# Altium schematic symbol library Panasonic_ERJ_2512.SchLib: 565 symbols (part 9 of 11)
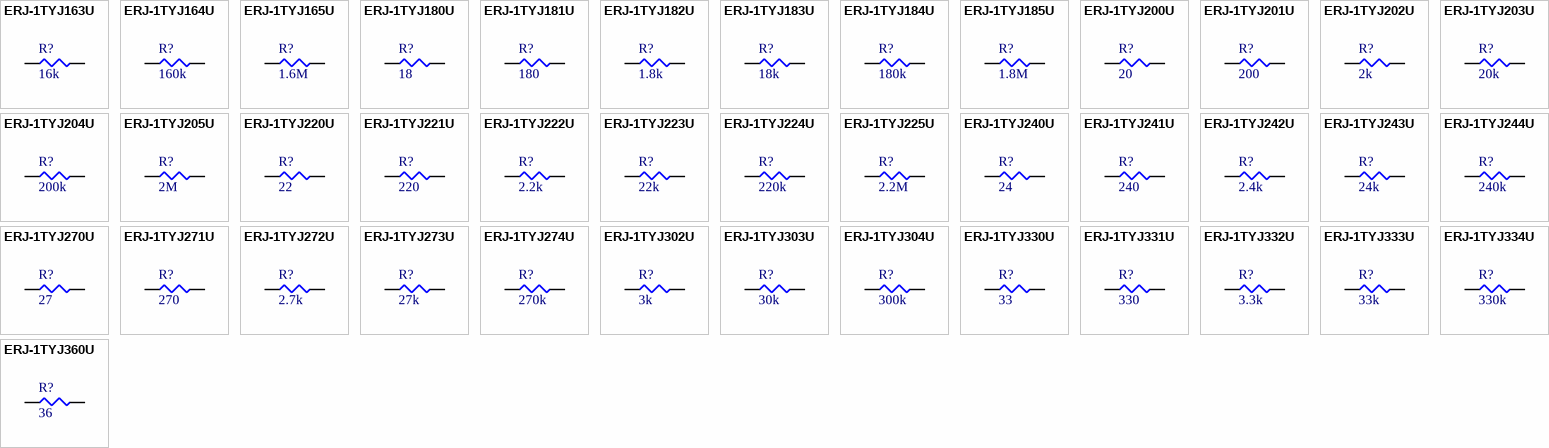
[diagram p22: symbols ERJ-1TYJ163U to ERJ-1TYJ360U]

## ERJ-1TYJ205U
designator R?, comment 2M
RES SMD 2M OHM 5% 1W 2512; Part Number: ERJ-1TYJ205U; Manufacturer: Panasonic Electronic Components; Factory Stock: 0; Unit Price (USD): 0.10912; @ qty: 1500; Minimum Quantity: 1; Temperature Coefficient: -400/ +150ppm/°C; Datasheets: //media.digikey.com/pdf/Data%20Sheets/Panasonic%20Resistors%20Thermistors%20PDFs/ERJ-xG,14,12(Z),1T_Rev_Apr_2015.pdf; Image: //media.digikey.com/Renders/Panasonic%20Renders/ERJ-2512%20Pkg.jpg; Digi-Key Part Number: PT2.0MXCT-ND; Quantity Available: 17604; Packaging: Cut Tape (CT); Series: ERJ; Part Status: Active; Value: 2M; Tolerance: ±5%; Power (Watts): 1W; Composition: Thick Film; Features: Automotive AEC-Q200; Operating Temperature: -55°C ~ 155°C; Package / Case: 2512 (6432 Metric); Supplier Device Package: 2512; Size / Dimension: 0.252" L x 0.126" W (6.40mm x 3.20mm); Height - Seated (Max): 0.028" (0.70mm); Number of Terminations: 2; Failure Rate: -
footprint SMD-2512-RES
pins: 1, 2

## ERJ-1TYJ220U
designator R?, comment 22
RES SMD 22 OHM 5% 1W 2512; Part Number: ERJ-1TYJ220U; Manufacturer: Panasonic Electronic Components; Factory Stock: 0; Unit Price (USD): 0.10102; @ qty: 1500; Minimum Quantity: 1; Temperature Coefficient: ±200ppm/°C; Datasheets: //media.digikey.com/pdf/Data%20Sheets/Panasonic%20Resistors%20Thermistors%20PDFs/ERJ-xG,14,12(Z),1T_Rev_Apr_2015.pdf; Image: //media.digikey.com/Renders/Panasonic%20Renders/ERJ-2512%20Pkg.jpg; Digi-Key Part Number: PT22XCT-ND; Quantity Available: 25733; Packaging: Cut Tape (CT); Series: ERJ; Part Status: Active; Value: 22; Tolerance: ±5%; Power (Watts): 1W; Composition: Thick Film; Features: Automotive AEC-Q200; Operating Temperature: -55°C ~ 155°C; Package / Case: 2512 (6432 Metric); Supplier Device Package: 2512; Size / Dimension: 0.252" L x 0.126" W (6.40mm x 3.20mm); Height - Seated (Max): 0.028" (0.70mm); Number of Terminations: 2; Failure Rate: -
footprint SMD-2512-RES
pins: 1, 2

## ERJ-1TYJ221U
designator R?, comment 220
RES SMD 220 OHM 5% 1W 2512; Part Number: ERJ-1TYJ221U; Manufacturer: Panasonic Electronic Components; Factory Stock: 0; Unit Price (USD): 0.07603; @ qty: 1500; Minimum Quantity: 1; Temperature Coefficient: ±200ppm/°C; Datasheets: //media.digikey.com/pdf/Data%20Sheets/Panasonic%20Resistors%20Thermistors%20PDFs/ERJ-xG,14,12(Z),1T_Rev_Apr_2015.pdf; Image: //media.digikey.com/Renders/Panasonic%20Renders/ERJ-2512%20Pkg.jpg; Digi-Key Part Number: PT220XCT-ND; Quantity Available: 62116; Packaging: Cut Tape (CT); Series: ERJ; Part Status: Active; Value: 220; Tolerance: ±5%; Power (Watts): 1W; Composition: Thick Film; Features: Automotive AEC-Q200; Operating Temperature: -55°C ~ 155°C; Package / Case: 2512 (6432 Metric); Supplier Device Package: 2512; Size / Dimension: 0.252" L x 0.126" W (6.40mm x 3.20mm); Height - Seated (Max): 0.028" (0.70mm); Number of Terminations: 2; Failure Rate: -
footprint SMD-2512-RES
pins: 1, 2

## ERJ-1TYJ222U
designator R?, comment 2.2k
RES SMD 2.2K OHM 5% 1W 2512; Part Number: ERJ-1TYJ222U; Manufacturer: Panasonic Electronic Components; Factory Stock: 0; Unit Price (USD): 0.07603; @ qty: 1500; Minimum Quantity: 1; Temperature Coefficient: ±200ppm/°C; Datasheets: //media.digikey.com/pdf/Data%20Sheets/Panasonic%20Resistors%20Thermistors%20PDFs/ERJ-xG,14,12(Z),1T_Rev_Apr_2015.pdf; Image: //media.digikey.com/Renders/Panasonic%20Renders/ERJ-2512%20Pkg.jpg; Digi-Key Part Number: PT2.2KXCT-ND; Quantity Available: 57537; Packaging: Cut Tape (CT); Series: ERJ; Part Status: Active; Value: 2.2k; Tolerance: ±5%; Power (Watts): 1W; Composition: Thick Film; Features: Automotive AEC-Q200; Operating Temperature: -55°C ~ 155°C; Package / Case: 2512 (6432 Metric); Supplier Device Package: 2512; Size / Dimension: 0.252" L x 0.126" W (6.40mm x 3.20mm); Height - Seated (Max): 0.028" (0.70mm); Number of Terminations: 2; Failure Rate: -
footprint SMD-2512-RES
pins: 1, 2

## ERJ-1TYJ223U
designator R?, comment 22k
RES SMD 22K OHM 5% 1W 2512; Part Number: ERJ-1TYJ223U; Manufacturer: Panasonic Electronic Components; Factory Stock: 0; Unit Price (USD): 0.07603; @ qty: 1500; Minimum Quantity: 1; Temperature Coefficient: ±200ppm/°C; Datasheets: //media.digikey.com/pdf/Data%20Sheets/Panasonic%20Resistors%20Thermistors%20PDFs/ERJ-xG,14,12(Z),1T_Rev_Apr_2015.pdf; Image: //media.digikey.com/Renders/Panasonic%20Renders/ERJ-2512%20Pkg.jpg; Digi-Key Part Number: PT22KXCT-ND; Quantity Available: 10355; Packaging: Cut Tape (CT); Series: ERJ; Part Status: Active; Value: 22k; Tolerance: ±5%; Power (Watts): 1W; Composition: Thick Film; Features: Automotive AEC-Q200; Operating Temperature: -55°C ~ 155°C; Package / Case: 2512 (6432 Metric); Supplier Device Package: 2512; Size / Dimension: 0.252" L x 0.126" W (6.40mm x 3.20mm); Height - Seated (Max): 0.028" (0.70mm); Number of Terminations: 2; Failure Rate: -
footprint SMD-2512-RES
pins: 1, 2

## ERJ-1TYJ224U
designator R?, comment 220k
RES SMD 220K OHM 5% 1W 2512; Part Number: ERJ-1TYJ224U; Manufacturer: Panasonic Electronic Components; Factory Stock: 0; Unit Price (USD): 0.07603; @ qty: 1500; Minimum Quantity: 1; Temperature Coefficient: ±200ppm/°C; Datasheets: //media.digikey.com/pdf/Data%20Sheets/Panasonic%20Resistors%20Thermistors%20PDFs/ERJ-xG,14,12(Z),1T_Rev_Apr_2015.pdf; Image: //media.digikey.com/Renders/Panasonic%20Renders/ERJ-2512%20Pkg.jpg; Digi-Key Part Number: PT220KXCT-ND; Quantity Available: 4739; Packaging: Cut Tape (CT); Series: ERJ; Part Status: Active; Value: 220k; Tolerance: ±5%; Power (Watts): 1W; Composition: Thick Film; Features: Automotive AEC-Q200; Operating Temperature: -55°C ~ 155°C; Package / Case: 2512 (6432 Metric); Supplier Device Package: 2512; Size / Dimension: 0.252" L x 0.126" W (6.40mm x 3.20mm); Height - Seated (Max): 0.028" (0.70mm); Number of Terminations: 2; Failure Rate: -
footprint SMD-2512-RES
pins: 1, 2

## ERJ-1TYJ225U
designator R?, comment 2.2M
RES SMD 2.2M OHM 5% 1W 2512; Part Number: ERJ-1TYJ225U; Manufacturer: Panasonic Electronic Components; Factory Stock: 0; Unit Price (USD): 0.07603; @ qty: 1500; Minimum Quantity: 1; Temperature Coefficient: -400/ +150ppm/°C; Datasheets: //media.digikey.com/pdf/Data%20Sheets/Panasonic%20Resistors%20Thermistors%20PDFs/ERJ-xG,14,12(Z),1T_Rev_Apr_2015.pdf; Image: //media.digikey.com/Renders/Panasonic%20Renders/ERJ-2512%20Pkg.jpg; Digi-Key Part Number: PT2.2MXCT-ND; Quantity Available: 9358; Packaging: Cut Tape (CT); Series: ERJ; Part Status: Active; Value: 2.2M; Tolerance: ±5%; Power (Watts): 1W; Composition: Thick Film; Features: Automotive AEC-Q200; Operating Temperature: -55°C ~ 155°C; Package / Case: 2512 (6432 Metric); Supplier Device Package: 2512; Size / Dimension: 0.252" L x 0.126" W (6.40mm x 3.20mm); Height - Seated (Max): 0.028" (0.70mm); Number of Terminations: 2; Failure Rate: -
footprint SMD-2512-RES
pins: 1, 2

## ERJ-1TYJ240U
designator R?, comment 24
RES SMD 24 OHM 5% 1W 2512; Part Number: ERJ-1TYJ240U; Manufacturer: Panasonic Electronic Components; Factory Stock: 0; Unit Price (USD): 0.10102; @ qty: 1500; Minimum Quantity: 1; Temperature Coefficient: ±200ppm/°C; Datasheets: //media.digikey.com/pdf/Data%20Sheets/Panasonic%20Resistors%20Thermistors%20PDFs/ERJ-xG,14,12(Z),1T_Rev_Apr_2015.pdf; Image: //media.digikey.com/Renders/Panasonic%20Renders/ERJ-2512%20Pkg.jpg; Digi-Key Part Number: PT24XCT-ND; Quantity Available: 8352; Packaging: Cut Tape (CT); Series: ERJ; Part Status: Active; Value: 24; Tolerance: ±5%; Power (Watts): 1W; Composition: Thick Film; Features: Automotive AEC-Q200; Operating Temperature: -55°C ~ 155°C; Package / Case: 2512 (6432 Metric); Supplier Device Package: 2512; Size / Dimension: 0.252" L x 0.126" W (6.40mm x 3.20mm); Height - Seated (Max): 0.028" (0.70mm); Number of Terminations: 2; Failure Rate: -
footprint SMD-2512-RES
pins: 1, 2

## ERJ-1TYJ241U
designator R?, comment 240
RES SMD 240 OHM 5% 1W 2512; Part Number: ERJ-1TYJ241U; Manufacturer: Panasonic Electronic Components; Factory Stock: 0; Unit Price (USD): 0.07603; @ qty: 1500; Minimum Quantity: 1; Temperature Coefficient: ±200ppm/°C; Datasheets: //media.digikey.com/pdf/Data%20Sheets/Panasonic%20Resistors%20Thermistors%20PDFs/ERJ-xG,14,12(Z),1T_Rev_Apr_2015.pdf; Image: //media.digikey.com/Renders/Panasonic%20Renders/ERJ-2512%20Pkg.jpg; Digi-Key Part Number: PT240XCT-ND; Quantity Available: 12164; Packaging: Cut Tape (CT); Series: ERJ; Part Status: Active; Value: 240; Tolerance: ±5%; Power (Watts): 1W; Composition: Thick Film; Features: Automotive AEC-Q200; Operating Temperature: -55°C ~ 155°C; Package / Case: 2512 (6432 Metric); Supplier Device Package: 2512; Size / Dimension: 0.252" L x 0.126" W (6.40mm x 3.20mm); Height - Seated (Max): 0.028" (0.70mm); Number of Terminations: 2; Failure Rate: -
footprint SMD-2512-RES
pins: 1, 2

## ERJ-1TYJ242U
designator R?, comment 2.4k
RES SMD 2.4K OHM 5% 1W 2512; Part Number: ERJ-1TYJ242U; Manufacturer: Panasonic Electronic Components; Factory Stock: 0; Unit Price (USD): 0.07603; @ qty: 1500; Minimum Quantity: 1; Temperature Coefficient: ±200ppm/°C; Datasheets: //media.digikey.com/pdf/Data%20Sheets/Panasonic%20Resistors%20Thermistors%20PDFs/ERJ-xG,14,12(Z),1T_Rev_Apr_2015.pdf; Image: //media.digikey.com/Renders/Panasonic%20Renders/ERJ-2512%20Pkg.jpg; Digi-Key Part Number: PT2.4KXCT-ND; Quantity Available: 11985; Packaging: Cut Tape (CT); Series: ERJ; Part Status: Active; Value: 2.4k; Tolerance: ±5%; Power (Watts): 1W; Composition: Thick Film; Features: Automotive AEC-Q200; Operating Temperature: -55°C ~ 155°C; Package / Case: 2512 (6432 Metric); Supplier Device Package: 2512; Size / Dimension: 0.252" L x 0.126" W (6.40mm x 3.20mm); Height - Seated (Max): 0.028" (0.70mm); Number of Terminations: 2; Failure Rate: -
footprint SMD-2512-RES
pins: 1, 2

## ERJ-1TYJ243U
designator R?, comment 24k
RES SMD 24K OHM 5% 1W 2512; Part Number: ERJ-1TYJ243U; Manufacturer: Panasonic Electronic Components; Factory Stock: 0; Unit Price (USD): 0.07603; @ qty: 1500; Minimum Quantity: 1; Temperature Coefficient: ±200ppm/°C; Datasheets: //media.digikey.com/pdf/Data%20Sheets/Panasonic%20Resistors%20Thermistors%20PDFs/ERJ-xG,14,12(Z),1T_Rev_Apr_2015.pdf; Image: //media.digikey.com/Renders/Panasonic%20Renders/ERJ-2512%20Pkg.jpg; Digi-Key Part Number: PT24KXCT-ND; Quantity Available: 10171; Packaging: Cut Tape (CT); Series: ERJ; Part Status: Active; Value: 24k; Tolerance: ±5%; Power (Watts): 1W; Composition: Thick Film; Features: Automotive AEC-Q200; Operating Temperature: -55°C ~ 155°C; Package / Case: 2512 (6432 Metric); Supplier Device Package: 2512; Size / Dimension: 0.252" L x 0.126" W (6.40mm x 3.20mm); Height - Seated (Max): 0.028" (0.70mm); Number of Terminations: 2; Failure Rate: -
footprint SMD-2512-RES
pins: 1, 2

## ERJ-1TYJ244U
designator R?, comment 240k
RES SMD 240K OHM 5% 1W 2512; Part Number: ERJ-1TYJ244U; Manufacturer: Panasonic Electronic Components; Factory Stock: 0; Unit Price (USD): 0.07603; @ qty: 1500; Minimum Quantity: 1; Temperature Coefficient: ±200ppm/°C; Datasheets: //media.digikey.com/pdf/Data%20Sheets/Panasonic%20Resistors%20Thermistors%20PDFs/ERJ-xG,14,12(Z),1T_Rev_Apr_2015.pdf; Image: //media.digikey.com/Renders/Panasonic%20Renders/ERJ-2512%20Pkg.jpg; Digi-Key Part Number: PT240KXCT-ND; Quantity Available: 12536; Packaging: Cut Tape (CT); Series: ERJ; Part Status: Active; Value: 240k; Tolerance: ±5%; Power (Watts): 1W; Composition: Thick Film; Features: Automotive AEC-Q200; Operating Temperature: -55°C ~ 155°C; Package / Case: 2512 (6432 Metric); Supplier Device Package: 2512; Size / Dimension: 0.252" L x 0.126" W (6.40mm x 3.20mm); Height - Seated (Max): 0.028" (0.70mm); Number of Terminations: 2; Failure Rate: -
footprint SMD-2512-RES
pins: 1, 2

## ERJ-1TYJ270U
designator R?, comment 27
RES SMD 27 OHM 5% 1W 2512; Part Number: ERJ-1TYJ270U; Manufacturer: Panasonic Electronic Components; Factory Stock: 0; Unit Price (USD): 0.07603; @ qty: 1500; Minimum Quantity: 1; Temperature Coefficient: ±200ppm/°C; Datasheets: //media.digikey.com/pdf/Data%20Sheets/Panasonic%20Resistors%20Thermistors%20PDFs/ERJ-xG,14,12(Z),1T_Rev_Apr_2015.pdf; Image: //media.digikey.com/Renders/Panasonic%20Renders/ERJ-2512%20Pkg.jpg; Digi-Key Part Number: PT27XCT-ND; Quantity Available: 17969; Packaging: Cut Tape (CT); Series: ERJ; Part Status: Active; Value: 27; Tolerance: ±5%; Power (Watts): 1W; Composition: Thick Film; Features: Automotive AEC-Q200; Operating Temperature: -55°C ~ 155°C; Package / Case: 2512 (6432 Metric); Supplier Device Package: 2512; Size / Dimension: 0.252" L x 0.126" W (6.40mm x 3.20mm); Height - Seated (Max): 0.028" (0.70mm); Number of Terminations: 2; Failure Rate: -
footprint SMD-2512-RES
pins: 1, 2

## ERJ-1TYJ271U
designator R?, comment 270
RES SMD 270 OHM 5% 1W 2512; Part Number: ERJ-1TYJ271U; Manufacturer: Panasonic Electronic Components; Factory Stock: 0; Unit Price (USD): 0.10102; @ qty: 1500; Minimum Quantity: 1; Temperature Coefficient: ±200ppm/°C; Datasheets: //media.digikey.com/pdf/Data%20Sheets/Panasonic%20Resistors%20Thermistors%20PDFs/ERJ-xG,14,12(Z),1T_Rev_Apr_2015.pdf; Image: //media.digikey.com/Renders/Panasonic%20Renders/ERJ-2512%20Pkg.jpg; Digi-Key Part Number: PT270XCT-ND; Quantity Available: 13712; Packaging: Cut Tape (CT); Series: ERJ; Part Status: Active; Value: 270; Tolerance: ±5%; Power (Watts): 1W; Composition: Thick Film; Features: Automotive AEC-Q200; Operating Temperature: -55°C ~ 155°C; Package / Case: 2512 (6432 Metric); Supplier Device Package: 2512; Size / Dimension: 0.252" L x 0.126" W (6.40mm x 3.20mm); Height - Seated (Max): 0.028" (0.70mm); Number of Terminations: 2; Failure Rate: -
footprint SMD-2512-RES
pins: 1, 2

## ERJ-1TYJ272U
designator R?, comment 2.7k
RES SMD 2.7K OHM 5% 1W 2512; Part Number: ERJ-1TYJ272U; Manufacturer: Panasonic Electronic Components; Factory Stock: 0; Unit Price (USD): 0.10102; @ qty: 1500; Minimum Quantity: 1; Temperature Coefficient: ±200ppm/°C; Datasheets: //media.digikey.com/pdf/Data%20Sheets/Panasonic%20Resistors%20Thermistors%20PDFs/ERJ-xG,14,12(Z),1T_Rev_Apr_2015.pdf; Image: //media.digikey.com/Renders/Panasonic%20Renders/ERJ-2512%20Pkg.jpg; Digi-Key Part Number: PT2.7KXCT-ND; Quantity Available: 8872; Packaging: Cut Tape (CT); Series: ERJ; Part Status: Active; Value: 2.7k; Tolerance: ±5%; Power (Watts): 1W; Composition: Thick Film; Features: Automotive AEC-Q200; Operating Temperature: -55°C ~ 155°C; Package / Case: 2512 (6432 Metric); Supplier Device Package: 2512; Size / Dimension: 0.252" L x 0.126" W (6.40mm x 3.20mm); Height - Seated (Max): 0.028" (0.70mm); Number of Terminations: 2; Failure Rate: -
footprint SMD-2512-RES
pins: 1, 2

## ERJ-1TYJ273U
designator R?, comment 27k
RES SMD 27K OHM 5% 1W 2512; Part Number: ERJ-1TYJ273U; Manufacturer: Panasonic Electronic Components; Factory Stock: 0; Unit Price (USD): 0.10102; @ qty: 1500; Minimum Quantity: 1; Temperature Coefficient: ±200ppm/°C; Datasheets: //media.digikey.com/pdf/Data%20Sheets/Panasonic%20Resistors%20Thermistors%20PDFs/ERJ-xG,14,12(Z),1T_Rev_Apr_2015.pdf; Image: //media.digikey.com/Renders/Panasonic%20Renders/ERJ-2512%20Pkg.jpg; Digi-Key Part Number: PT27KXCT-ND; Quantity Available: 33101; Packaging: Cut Tape (CT); Series: ERJ; Part Status: Active; Value: 27k; Tolerance: ±5%; Power (Watts): 1W; Composition: Thick Film; Features: Automotive AEC-Q200; Operating Temperature: -55°C ~ 155°C; Package / Case: 2512 (6432 Metric); Supplier Device Package: 2512; Size / Dimension: 0.252" L x 0.126" W (6.40mm x 3.20mm); Height - Seated (Max): 0.028" (0.70mm); Number of Terminations: 2; Failure Rate: -
footprint SMD-2512-RES
pins: 1, 2

## ERJ-1TYJ274U
designator R?, comment 270k
RES SMD 270K OHM 5% 1W 2512; Part Number: ERJ-1TYJ274U; Manufacturer: Panasonic Electronic Components; Factory Stock: 0; Unit Price (USD): 0.10102; @ qty: 1500; Minimum Quantity: 1; Temperature Coefficient: ±200ppm/°C; Datasheets: //media.digikey.com/pdf/Data%20Sheets/Panasonic%20Resistors%20Thermistors%20PDFs/ERJ-xG,14,12(Z),1T_Rev_Apr_2015.pdf; Image: //media.digikey.com/Renders/Panasonic%20Renders/ERJ-2512%20Pkg.jpg; Digi-Key Part Number: PT270KXCT-ND; Quantity Available: 4742; Packaging: Cut Tape (CT); Series: ERJ; Part Status: Active; Value: 270k; Tolerance: ±5%; Power (Watts): 1W; Composition: Thick Film; Features: Automotive AEC-Q200; Operating Temperature: -55°C ~ 155°C; Package / Case: 2512 (6432 Metric); Supplier Device Package: 2512; Size / Dimension: 0.252" L x 0.126" W (6.40mm x 3.20mm); Height - Seated (Max): 0.028" (0.70mm); Number of Terminations: 2; Failure Rate: -
footprint SMD-2512-RES
pins: 1, 2

## ERJ-1TYJ302U
designator R?, comment 3k
RES SMD 3K OHM 5% 1W 2512; Part Number: ERJ-1TYJ302U; Manufacturer: Panasonic Electronic Components; Factory Stock: 0; Unit Price (USD): 0.07603; @ qty: 1500; Minimum Quantity: 1; Temperature Coefficient: ±200ppm/°C; Datasheets: //media.digikey.com/pdf/Data%20Sheets/Panasonic%20Resistors%20Thermistors%20PDFs/ERJ-xG,14,12(Z),1T_Rev_Apr_2015.pdf; Image: //media.digikey.com/Renders/Panasonic%20Renders/ERJ-2512%20Pkg.jpg; Digi-Key Part Number: PT3.0KXCT-ND; Quantity Available: 7561; Packaging: Cut Tape (CT); Series: ERJ; Part Status: Active; Value: 3k; Tolerance: ±5%; Power (Watts): 1W; Composition: Thick Film; Features: Automotive AEC-Q200; Operating Temperature: -55°C ~ 155°C; Package / Case: 2512 (6432 Metric); Supplier Device Package: 2512; Size / Dimension: 0.252" L x 0.126" W (6.40mm x 3.20mm); Height - Seated (Max): 0.028" (0.70mm); Number of Terminations: 2; Failure Rate: -
footprint SMD-2512-RES
pins: 1, 2

## ERJ-1TYJ303U
designator R?, comment 30k
RES SMD 30K OHM 5% 1W 2512; Part Number: ERJ-1TYJ303U; Manufacturer: Panasonic Electronic Components; Factory Stock: 0; Unit Price (USD): 0.07603; @ qty: 1500; Minimum Quantity: 1; Temperature Coefficient: ±200ppm/°C; Datasheets: //media.digikey.com/pdf/Data%20Sheets/Panasonic%20Resistors%20Thermistors%20PDFs/ERJ-xG,14,12(Z),1T_Rev_Apr_2015.pdf; Image: //media.digikey.com/Renders/Panasonic%20Renders/ERJ-2512%20Pkg.jpg; Digi-Key Part Number: PT30KXCT-ND; Quantity Available: 7362; Packaging: Cut Tape (CT); Series: ERJ; Part Status: Active; Value: 30k; Tolerance: ±5%; Power (Watts): 1W; Composition: Thick Film; Features: Automotive AEC-Q200; Operating Temperature: -55°C ~ 155°C; Package / Case: 2512 (6432 Metric); Supplier Device Package: 2512; Size / Dimension: 0.252" L x 0.126" W (6.40mm x 3.20mm); Height - Seated (Max): 0.028" (0.70mm); Number of Terminations: 2; Failure Rate: -
footprint SMD-2512-RES
pins: 1, 2

## ERJ-1TYJ304U
designator R?, comment 300k
RES SMD 300K OHM 5% 1W 2512; Part Number: ERJ-1TYJ304U; Manufacturer: Panasonic Electronic Components; Factory Stock: 0; Unit Price (USD): 0.07603; @ qty: 1500; Minimum Quantity: 1; Temperature Coefficient: ±200ppm/°C; Datasheets: //media.digikey.com/pdf/Data%20Sheets/Panasonic%20Resistors%20Thermistors%20PDFs/ERJ-xG,14,12(Z),1T_Rev_Apr_2015.pdf; Image: //media.digikey.com/Renders/Panasonic%20Renders/ERJ-2512%20Pkg.jpg; Digi-Key Part Number: PT300KXCT-ND; Quantity Available: 3476; Packaging: Cut Tape (CT); Series: ERJ; Part Status: Active; Value: 300k; Tolerance: ±5%; Power (Watts): 1W; Composition: Thick Film; Features: Automotive AEC-Q200; Operating Temperature: -55°C ~ 155°C; Package / Case: 2512 (6432 Metric); Supplier Device Package: 2512; Size / Dimension: 0.252" L x 0.126" W (6.40mm x 3.20mm); Height - Seated (Max): 0.028" (0.70mm); Number of Terminations: 2; Failure Rate: -
footprint SMD-2512-RES
pins: 1, 2

## ERJ-1TYJ330U
designator R?, comment 33
RES SMD 33 OHM 5% 1W 2512; Part Number: ERJ-1TYJ330U; Manufacturer: Panasonic Electronic Components; Factory Stock: 0; Unit Price (USD): 0.10102; @ qty: 1500; Minimum Quantity: 1; Temperature Coefficient: ±200ppm/°C; Datasheets: //media.digikey.com/pdf/Data%20Sheets/Panasonic%20Resistors%20Thermistors%20PDFs/ERJ-xG,14,12(Z),1T_Rev_Apr_2015.pdf; Image: //media.digikey.com/Renders/Panasonic%20Renders/ERJ-2512%20Pkg.jpg; Digi-Key Part Number: PT33XCT-ND; Quantity Available: 18609; Packaging: Cut Tape (CT); Series: ERJ; Part Status: Active; Value: 33; Tolerance: ±5%; Power (Watts): 1W; Composition: Thick Film; Features: Automotive AEC-Q200; Operating Temperature: -55°C ~ 155°C; Package / Case: 2512 (6432 Metric); Supplier Device Package: 2512; Size / Dimension: 0.252" L x 0.126" W (6.40mm x 3.20mm); Height - Seated (Max): 0.028" (0.70mm); Number of Terminations: 2; Failure Rate: -
footprint SMD-2512-RES
pins: 1, 2

## ERJ-1TYJ331U
designator R?, comment 330
RES SMD 330 OHM 5% 1W 2512; Part Number: ERJ-1TYJ331U; Manufacturer: Panasonic Electronic Components; Factory Stock: 0; Unit Price (USD): 0.07603; @ qty: 1500; Minimum Quantity: 1; Temperature Coefficient: ±200ppm/°C; Datasheets: //media.digikey.com/pdf/Data%20Sheets/Panasonic%20Resistors%20Thermistors%20PDFs/ERJ-xG,14,12(Z),1T_Rev_Apr_2015.pdf; Image: //media.digikey.com/Renders/Panasonic%20Renders/ERJ-2512%20Pkg.jpg; Digi-Key Part Number: PT330XCT-ND; Quantity Available: 53063; Packaging: Cut Tape (CT); Series: ERJ; Part Status: Active; Value: 330; Tolerance: ±5%; Power (Watts): 1W; Composition: Thick Film; Features: Automotive AEC-Q200; Operating Temperature: -55°C ~ 155°C; Package / Case: 2512 (6432 Metric); Supplier Device Package: 2512; Size / Dimension: 0.252" L x 0.126" W (6.40mm x 3.20mm); Height - Seated (Max): 0.028" (0.70mm); Number of Terminations: 2; Failure Rate: -
footprint SMD-2512-RES
pins: 1, 2

## ERJ-1TYJ332U
designator R?, comment 3.3k
RES SMD 3.3K OHM 5% 1W 2512; Part Number: ERJ-1TYJ332U; Manufacturer: Panasonic Electronic Components; Factory Stock: 0; Unit Price (USD): 0.10102; @ qty: 1500; Minimum Quantity: 1; Temperature Coefficient: ±200ppm/°C; Datasheets: //media.digikey.com/pdf/Data%20Sheets/Panasonic%20Resistors%20Thermistors%20PDFs/ERJ-xG,14,12(Z),1T_Rev_Apr_2015.pdf; Image: //media.digikey.com/Renders/Panasonic%20Renders/ERJ-2512%20Pkg.jpg; Digi-Key Part Number: PT3.3KXCT-ND; Quantity Available: 21139; Packaging: Cut Tape (CT); Series: ERJ; Part Status: Active; Value: 3.3k; Tolerance: ±5%; Power (Watts): 1W; Composition: Thick Film; Features: Automotive AEC-Q200; Operating Temperature: -55°C ~ 155°C; Package / Case: 2512 (6432 Metric); Supplier Device Package: 2512; Size / Dimension: 0.252" L x 0.126" W (6.40mm x 3.20mm); Height - Seated (Max): 0.028" (0.70mm); Number of Terminations: 2; Failure Rate: -
footprint SMD-2512-RES
pins: 1, 2

## ERJ-1TYJ333U
designator R?, comment 33k
RES SMD 33K OHM 5% 1W 2512; Part Number: ERJ-1TYJ333U; Manufacturer: Panasonic Electronic Components; Factory Stock: 0; Unit Price (USD): 0.10102; @ qty: 1500; Minimum Quantity: 1; Temperature Coefficient: ±200ppm/°C; Datasheets: //media.digikey.com/pdf/Data%20Sheets/Panasonic%20Resistors%20Thermistors%20PDFs/ERJ-xG,14,12(Z),1T_Rev_Apr_2015.pdf; Image: //media.digikey.com/Renders/Panasonic%20Renders/ERJ-2512%20Pkg.jpg; Digi-Key Part Number: PT33KXCT-ND; Quantity Available: 2220; Packaging: Cut Tape (CT); Series: ERJ; Part Status: Active; Value: 33k; Tolerance: ±5%; Power (Watts): 1W; Composition: Thick Film; Features: Automotive AEC-Q200; Operating Temperature: -55°C ~ 155°C; Package / Case: 2512 (6432 Metric); Supplier Device Package: 2512; Size / Dimension: 0.252" L x 0.126" W (6.40mm x 3.20mm); Height - Seated (Max): 0.028" (0.70mm); Number of Terminations: 2; Failure Rate: -
footprint SMD-2512-RES
pins: 1, 2

## ERJ-1TYJ334U
designator R?, comment 330k
RES SMD 330K OHM 5% 1W 2512; Part Number: ERJ-1TYJ334U; Manufacturer: Panasonic Electronic Components; Factory Stock: 0; Unit Price (USD): 0.07603; @ qty: 1500; Minimum Quantity: 1; Temperature Coefficient: ±200ppm/°C; Datasheets: //media.digikey.com/pdf/Data%20Sheets/Panasonic%20Resistors%20Thermistors%20PDFs/ERJ-xG,14,12(Z),1T_Rev_Apr_2015.pdf; Image: //media.digikey.com/Renders/Panasonic%20Renders/ERJ-2512%20Pkg.jpg; Digi-Key Part Number: PT330KXCT-ND; Quantity Available: 34319; Packaging: Cut Tape (CT); Series: ERJ; Part Status: Active; Value: 330k; Tolerance: ±5%; Power (Watts): 1W; Composition: Thick Film; Features: Automotive AEC-Q200; Operating Temperature: -55°C ~ 155°C; Package / Case: 2512 (6432 Metric); Supplier Device Package: 2512; Size / Dimension: 0.252" L x 0.126" W (6.40mm x 3.20mm); Height - Seated (Max): 0.028" (0.70mm); Number of Terminations: 2; Failure Rate: -
footprint SMD-2512-RES
pins: 1, 2

## ERJ-1TYJ360U
designator R?, comment 36
RES SMD 36 OHM 5% 1W 2512; Part Number: ERJ-1TYJ360U; Manufacturer: Panasonic Electronic Components; Factory Stock: 0; Unit Price (USD): 0.10102; @ qty: 1500; Minimum Quantity: 1; Temperature Coefficient: ±200ppm/°C; Datasheets: //media.digikey.com/pdf/Data%20Sheets/Panasonic%20Resistors%20Thermistors%20PDFs/ERJ-xG,14,12(Z),1T_Rev_Apr_2015.pdf; Image: //media.digikey.com/Renders/Panasonic%20Renders/ERJ-2512%20Pkg.jpg; Digi-Key Part Number: PT36XCT-ND; Quantity Available: 53533; Packaging: Cut Tape (CT); Series: ERJ; Part Status: Active; Value: 36; Tolerance: ±5%; Power (Watts): 1W; Composition: Thick Film; Features: Automotive AEC-Q200; Operating Temperature: -55°C ~ 155°C; Package / Case: 2512 (6432 Metric); Supplier Device Package: 2512; Size / Dimension: 0.252" L x 0.126" W (6.40mm x 3.20mm); Height - Seated (Max): 0.028" (0.70mm); Number of Terminations: 2; Failure Rate: -
footprint SMD-2512-RES
pins: 1, 2

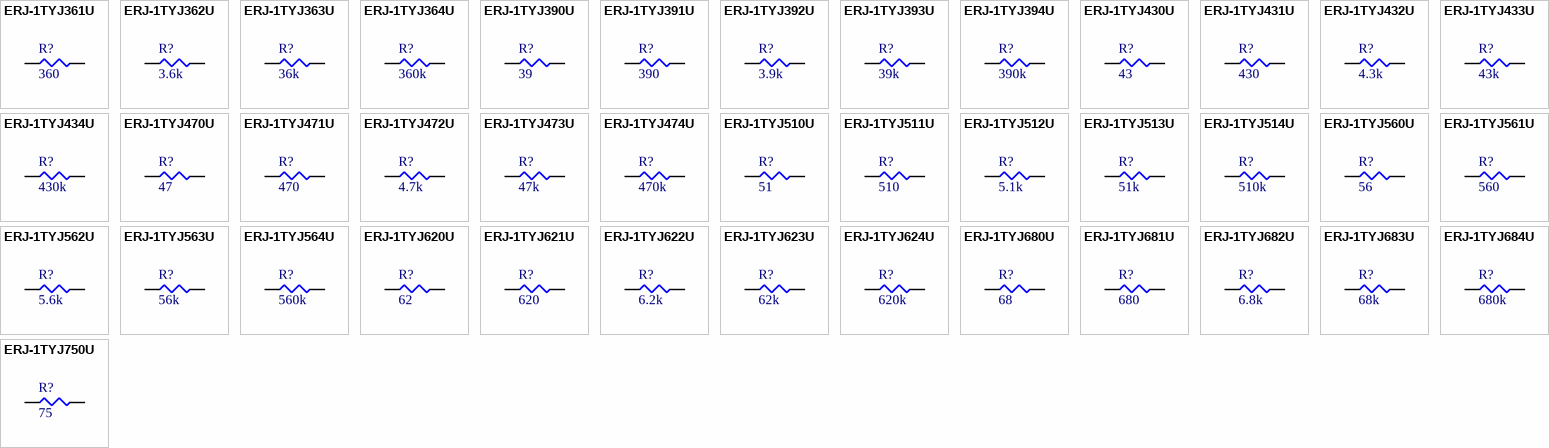
[diagram p11: symbols ERJ-1TYJ361U to ERJ-1TYJ750U]

## ERJ-1TYJ361U
designator R?, comment 360
RES SMD 360 OHM 5% 1W 2512; Part Number: ERJ-1TYJ361U; Manufacturer: Panasonic Electronic Components; Factory Stock: 0; Unit Price (USD): 0.10102; @ qty: 1500; Minimum Quantity: 1; Temperature Coefficient: ±200ppm/°C; Datasheets: //media.digikey.com/pdf/Data%20Sheets/Panasonic%20Resistors%20Thermistors%20PDFs/ERJ-xG,14,12(Z),1T_Rev_Apr_2015.pdf; Image: //media.digikey.com/Renders/Panasonic%20Renders/ERJ-2512%20Pkg.jpg; Digi-Key Part Number: PT360XCT-ND; Quantity Available: 11763; Packaging: Cut Tape (CT); Series: ERJ; Part Status: Active; Value: 360; Tolerance: ±5%; Power (Watts): 1W; Composition: Thick Film; Features: Automotive AEC-Q200; Operating Temperature: -55°C ~ 155°C; Package / Case: 2512 (6432 Metric); Supplier Device Package: 2512; Size / Dimension: 0.252" L x 0.126" W (6.40mm x 3.20mm); Height - Seated (Max): 0.028" (0.70mm); Number of Terminations: 2; Failure Rate: -
footprint SMD-2512-RES
pins: 1, 2

## ERJ-1TYJ362U
designator R?, comment 3.6k
RES SMD 3.6K OHM 5% 1W 2512; Part Number: ERJ-1TYJ362U; Manufacturer: Panasonic Electronic Components; Factory Stock: 0; Unit Price (USD): 0.07603; @ qty: 1500; Minimum Quantity: 1; Temperature Coefficient: ±200ppm/°C; Datasheets: //media.digikey.com/pdf/Data%20Sheets/Panasonic%20Resistors%20Thermistors%20PDFs/ERJ-xG,14,12(Z),1T_Rev_Apr_2015.pdf; Image: //media.digikey.com/Renders/Panasonic%20Renders/ERJ-2512%20Pkg.jpg; Digi-Key Part Number: PT3.6KXCT-ND; Quantity Available: 12944; Packaging: Cut Tape (CT); Series: ERJ; Part Status: Active; Value: 3.6k; Tolerance: ±5%; Power (Watts): 1W; Composition: Thick Film; Features: Automotive AEC-Q200; Operating Temperature: -55°C ~ 155°C; Package / Case: 2512 (6432 Metric); Supplier Device Package: 2512; Size / Dimension: 0.252" L x 0.126" W (6.40mm x 3.20mm); Height - Seated (Max): 0.028" (0.70mm); Number of Terminations: 2; Failure Rate: -
footprint SMD-2512-RES
pins: 1, 2

## ERJ-1TYJ363U
designator R?, comment 36k
RES SMD 36K OHM 5% 1W 2512; Part Number: ERJ-1TYJ363U; Manufacturer: Panasonic Electronic Components; Factory Stock: 0; Unit Price (USD): 0.10102; @ qty: 1500; Minimum Quantity: 1; Temperature Coefficient: ±200ppm/°C; Datasheets: //media.digikey.com/pdf/Data%20Sheets/Panasonic%20Resistors%20Thermistors%20PDFs/ERJ-xG,14,12(Z),1T_Rev_Apr_2015.pdf; Image: //media.digikey.com/Renders/Panasonic%20Renders/ERJ-2512%20Pkg.jpg; Digi-Key Part Number: PT36KXCT-ND; Quantity Available: 8120; Packaging: Cut Tape (CT); Series: ERJ; Part Status: Active; Value: 36k; Tolerance: ±5%; Power (Watts): 1W; Composition: Thick Film; Features: Automotive AEC-Q200; Operating Temperature: -55°C ~ 155°C; Package / Case: 2512 (6432 Metric); Supplier Device Package: 2512; Size / Dimension: 0.252" L x 0.126" W (6.40mm x 3.20mm); Height - Seated (Max): 0.028" (0.70mm); Number of Terminations: 2; Failure Rate: -
footprint SMD-2512-RES
pins: 1, 2

## ERJ-1TYJ364U
designator R?, comment 360k
RES SMD 360K OHM 5% 1W 2512; Part Number: ERJ-1TYJ364U; Manufacturer: Panasonic Electronic Components; Factory Stock: 0; Unit Price (USD): 0.07603; @ qty: 1500; Minimum Quantity: 1; Temperature Coefficient: ±200ppm/°C; Datasheets: //media.digikey.com/pdf/Data%20Sheets/Panasonic%20Resistors%20Thermistors%20PDFs/ERJ-xG,14,12(Z),1T_Rev_Apr_2015.pdf; Image: //media.digikey.com/Renders/Panasonic%20Renders/ERJ-2512%20Pkg.jpg; Digi-Key Part Number: PT360KXCT-ND; Quantity Available: 4886; Packaging: Cut Tape (CT); Series: ERJ; Part Status: Active; Value: 360k; Tolerance: ±5%; Power (Watts): 1W; Composition: Thick Film; Features: Automotive AEC-Q200; Operating Temperature: -55°C ~ 155°C; Package / Case: 2512 (6432 Metric); Supplier Device Package: 2512; Size / Dimension: 0.252" L x 0.126" W (6.40mm x 3.20mm); Height - Seated (Max): 0.028" (0.70mm); Number of Terminations: 2; Failure Rate: -
footprint SMD-2512-RES
pins: 1, 2

## ERJ-1TYJ390U
designator R?, comment 39
RES SMD 39 OHM 5% 1W 2512; Part Number: ERJ-1TYJ390U; Manufacturer: Panasonic Electronic Components; Factory Stock: 0; Unit Price (USD): 0.07603; @ qty: 1500; Minimum Quantity: 1; Temperature Coefficient: ±200ppm/°C; Datasheets: //media.digikey.com/pdf/Data%20Sheets/Panasonic%20Resistors%20Thermistors%20PDFs/ERJ-xG,14,12(Z),1T_Rev_Apr_2015.pdf; Image: //media.digikey.com/Renders/Panasonic%20Renders/ERJ-2512%20Pkg.jpg; Digi-Key Part Number: PT39XCT-ND; Quantity Available: 77542; Packaging: Cut Tape (CT); Series: ERJ; Part Status: Active; Value: 39; Tolerance: ±5%; Power (Watts): 1W; Composition: Thick Film; Features: Automotive AEC-Q200; Operating Temperature: -55°C ~ 155°C; Package / Case: 2512 (6432 Metric); Supplier Device Package: 2512; Size / Dimension: 0.252" L x 0.126" W (6.40mm x 3.20mm); Height - Seated (Max): 0.028" (0.70mm); Number of Terminations: 2; Failure Rate: -
footprint SMD-2512-RES
pins: 1, 2

## ERJ-1TYJ391U
designator R?, comment 390
RES SMD 390 OHM 5% 1W 2512; Part Number: ERJ-1TYJ391U; Manufacturer: Panasonic Electronic Components; Factory Stock: 0; Unit Price (USD): 0.10102; @ qty: 1500; Minimum Quantity: 1; Temperature Coefficient: ±200ppm/°C; Datasheets: //media.digikey.com/pdf/Data%20Sheets/Panasonic%20Resistors%20Thermistors%20PDFs/ERJ-xG,14,12(Z),1T_Rev_Apr_2015.pdf; Image: //media.digikey.com/Renders/Panasonic%20Renders/ERJ-2512%20Pkg.jpg; Digi-Key Part Number: PT390XCT-ND; Quantity Available: 7655; Packaging: Cut Tape (CT); Series: ERJ; Part Status: Active; Value: 390; Tolerance: ±5%; Power (Watts): 1W; Composition: Thick Film; Features: Automotive AEC-Q200; Operating Temperature: -55°C ~ 155°C; Package / Case: 2512 (6432 Metric); Supplier Device Package: 2512; Size / Dimension: 0.252" L x 0.126" W (6.40mm x 3.20mm); Height - Seated (Max): 0.028" (0.70mm); Number of Terminations: 2; Failure Rate: -
footprint SMD-2512-RES
pins: 1, 2

## ERJ-1TYJ392U
designator R?, comment 3.9k
RES SMD 3.9K OHM 5% 1W 2512; Part Number: ERJ-1TYJ392U; Manufacturer: Panasonic Electronic Components; Factory Stock: 0; Unit Price (USD): 0.07603; @ qty: 1500; Minimum Quantity: 1; Temperature Coefficient: ±200ppm/°C; Datasheets: //media.digikey.com/pdf/Data%20Sheets/Panasonic%20Resistors%20Thermistors%20PDFs/ERJ-xG,14,12(Z),1T_Rev_Apr_2015.pdf; Image: //media.digikey.com/Renders/Panasonic%20Renders/ERJ-2512%20Pkg.jpg; Digi-Key Part Number: PT3.9KXCT-ND; Quantity Available: 4285; Packaging: Cut Tape (CT); Series: ERJ; Part Status: Active; Value: 3.9k; Tolerance: ±5%; Power (Watts): 1W; Composition: Thick Film; Features: Automotive AEC-Q200; Operating Temperature: -55°C ~ 155°C; Package / Case: 2512 (6432 Metric); Supplier Device Package: 2512; Size / Dimension: 0.252" L x 0.126" W (6.40mm x 3.20mm); Height - Seated (Max): 0.028" (0.70mm); Number of Terminations: 2; Failure Rate: -
footprint SMD-2512-RES
pins: 1, 2

## ERJ-1TYJ393U
designator R?, comment 39k
RES SMD 39K OHM 5% 1W 2512; Part Number: ERJ-1TYJ393U; Manufacturer: Panasonic Electronic Components; Factory Stock: 0; Unit Price (USD): 0.10102; @ qty: 1500; Minimum Quantity: 1; Temperature Coefficient: ±200ppm/°C; Datasheets: //media.digikey.com/pdf/Data%20Sheets/Panasonic%20Resistors%20Thermistors%20PDFs/ERJ-xG,14,12(Z),1T_Rev_Apr_2015.pdf; Image: //media.digikey.com/Renders/Panasonic%20Renders/ERJ-2512%20Pkg.jpg; Digi-Key Part Number: PT39KXCT-ND; Quantity Available: 22258; Packaging: Cut Tape (CT); Series: ERJ; Part Status: Active; Value: 39k; Tolerance: ±5%; Power (Watts): 1W; Composition: Thick Film; Features: Automotive AEC-Q200; Operating Temperature: -55°C ~ 155°C; Package / Case: 2512 (6432 Metric); Supplier Device Package: 2512; Size / Dimension: 0.252" L x 0.126" W (6.40mm x 3.20mm); Height - Seated (Max): 0.028" (0.70mm); Number of Terminations: 2; Failure Rate: -
footprint SMD-2512-RES
pins: 1, 2

## ERJ-1TYJ394U
designator R?, comment 390k
RES SMD 390K OHM 5% 1W 2512; Part Number: ERJ-1TYJ394U; Manufacturer: Panasonic Electronic Components; Factory Stock: 0; Unit Price (USD): 0.10102; @ qty: 1500; Minimum Quantity: 1; Temperature Coefficient: ±200ppm/°C; Datasheets: //media.digikey.com/pdf/Data%20Sheets/Panasonic%20Resistors%20Thermistors%20PDFs/ERJ-xG,14,12(Z),1T_Rev_Apr_2015.pdf; Image: //media.digikey.com/Renders/Panasonic%20Renders/ERJ-2512%20Pkg.jpg; Digi-Key Part Number: PT390KXCT-ND; Quantity Available: 11450; Packaging: Cut Tape (CT); Series: ERJ; Part Status: Active; Value: 390k; Tolerance: ±5%; Power (Watts): 1W; Composition: Thick Film; Features: Automotive AEC-Q200; Operating Temperature: -55°C ~ 155°C; Package / Case: 2512 (6432 Metric); Supplier Device Package: 2512; Size / Dimension: 0.252" L x 0.126" W (6.40mm x 3.20mm); Height - Seated (Max): 0.028" (0.70mm); Number of Terminations: 2; Failure Rate: -
footprint SMD-2512-RES
pins: 1, 2

## ERJ-1TYJ430U
designator R?, comment 43
RES SMD 43 OHM 5% 1W 2512; Part Number: ERJ-1TYJ430U; Manufacturer: Panasonic Electronic Components; Factory Stock: 0; Unit Price (USD): 0.07603; @ qty: 1500; Minimum Quantity: 1; Temperature Coefficient: ±200ppm/°C; Datasheets: //media.digikey.com/pdf/Data%20Sheets/Panasonic%20Resistors%20Thermistors%20PDFs/ERJ-xG,14,12(Z),1T_Rev_Apr_2015.pdf; Image: //media.digikey.com/Renders/Panasonic%20Renders/ERJ-2512%20Pkg.jpg; Digi-Key Part Number: PT43XCT-ND; Quantity Available: 3826; Packaging: Cut Tape (CT); Series: ERJ; Part Status: Active; Value: 43; Tolerance: ±5%; Power (Watts): 1W; Composition: Thick Film; Features: Automotive AEC-Q200; Operating Temperature: -55°C ~ 155°C; Package / Case: 2512 (6432 Metric); Supplier Device Package: 2512; Size / Dimension: 0.252" L x 0.126" W (6.40mm x 3.20mm); Height - Seated (Max): 0.028" (0.70mm); Number of Terminations: 2; Failure Rate: -
footprint SMD-2512-RES
pins: 1, 2

## ERJ-1TYJ431U
designator R?, comment 430
RES SMD 430 OHM 5% 1W 2512; Part Number: ERJ-1TYJ431U; Manufacturer: Panasonic Electronic Components; Factory Stock: 0; Unit Price (USD): 0.07603; @ qty: 1500; Minimum Quantity: 1; Temperature Coefficient: ±200ppm/°C; Datasheets: //media.digikey.com/pdf/Data%20Sheets/Panasonic%20Resistors%20Thermistors%20PDFs/ERJ-xG,14,12(Z),1T_Rev_Apr_2015.pdf; Image: //media.digikey.com/Renders/Panasonic%20Renders/ERJ-2512%20Pkg.jpg; Digi-Key Part Number: PT430XCT-ND; Quantity Available: 2936; Packaging: Cut Tape (CT); Series: ERJ; Part Status: Active; Value: 430; Tolerance: ±5%; Power (Watts): 1W; Composition: Thick Film; Features: Automotive AEC-Q200; Operating Temperature: -55°C ~ 155°C; Package / Case: 2512 (6432 Metric); Supplier Device Package: 2512; Size / Dimension: 0.252" L x 0.126" W (6.40mm x 3.20mm); Height - Seated (Max): 0.028" (0.70mm); Number of Terminations: 2; Failure Rate: -
footprint SMD-2512-RES
pins: 1, 2

## ERJ-1TYJ432U
designator R?, comment 4.3k
RES SMD 4.3K OHM 5% 1W 2512; Part Number: ERJ-1TYJ432U; Manufacturer: Panasonic Electronic Components; Factory Stock: 0; Unit Price (USD): 0.10102; @ qty: 1500; Minimum Quantity: 1; Temperature Coefficient: ±200ppm/°C; Datasheets: //media.digikey.com/pdf/Data%20Sheets/Panasonic%20Resistors%20Thermistors%20PDFs/ERJ-xG,14,12(Z),1T_Rev_Apr_2015.pdf; Image: //media.digikey.com/Renders/Panasonic%20Renders/ERJ-2512%20Pkg.jpg; Digi-Key Part Number: PT4.3KXCT-ND; Quantity Available: 3850; Packaging: Cut Tape (CT); Series: ERJ; Part Status: Active; Value: 4.3k; Tolerance: ±5%; Power (Watts): 1W; Composition: Thick Film; Features: Automotive AEC-Q200; Operating Temperature: -55°C ~ 155°C; Package / Case: 2512 (6432 Metric); Supplier Device Package: 2512; Size / Dimension: 0.252" L x 0.126" W (6.40mm x 3.20mm); Height - Seated (Max): 0.028" (0.70mm); Number of Terminations: 2; Failure Rate: -
footprint SMD-2512-RES
pins: 1, 2

## ERJ-1TYJ433U
designator R?, comment 43k
RES SMD 43K OHM 5% 1W 2512; Part Number: ERJ-1TYJ433U; Manufacturer: Panasonic Electronic Components; Factory Stock: 0; Unit Price (USD): 0.10102; @ qty: 1500; Minimum Quantity: 1; Temperature Coefficient: ±200ppm/°C; Datasheets: //media.digikey.com/pdf/Data%20Sheets/Panasonic%20Resistors%20Thermistors%20PDFs/ERJ-xG,14,12(Z),1T_Rev_Apr_2015.pdf; Image: //media.digikey.com/Renders/Panasonic%20Renders/ERJ-2512%20Pkg.jpg; Digi-Key Part Number: PT43KXCT-ND; Quantity Available: 7395; Packaging: Cut Tape (CT); Series: ERJ; Part Status: Active; Value: 43k; Tolerance: ±5%; Power (Watts): 1W; Composition: Thick Film; Features: Automotive AEC-Q200; Operating Temperature: -55°C ~ 155°C; Package / Case: 2512 (6432 Metric); Supplier Device Package: 2512; Size / Dimension: 0.252" L x 0.126" W (6.40mm x 3.20mm); Height - Seated (Max): 0.028" (0.70mm); Number of Terminations: 2; Failure Rate: -
footprint SMD-2512-RES
pins: 1, 2

## ERJ-1TYJ434U
designator R?, comment 430k
RES SMD 430K OHM 5% 1W 2512; Part Number: ERJ-1TYJ434U; Manufacturer: Panasonic Electronic Components; Factory Stock: 0; Unit Price (USD): 0.10102; @ qty: 1500; Minimum Quantity: 1; Temperature Coefficient: ±200ppm/°C; Datasheets: //media.digikey.com/pdf/Data%20Sheets/Panasonic%20Resistors%20Thermistors%20PDFs/ERJ-xG,14,12(Z),1T_Rev_Apr_2015.pdf; Image: //media.digikey.com/Renders/Panasonic%20Renders/ERJ-2512%20Pkg.jpg; Digi-Key Part Number: PT430KXCT-ND; Quantity Available: 8431; Packaging: Cut Tape (CT); Series: ERJ; Part Status: Active; Value: 430k; Tolerance: ±5%; Power (Watts): 1W; Composition: Thick Film; Features: Automotive AEC-Q200; Operating Temperature: -55°C ~ 155°C; Package / Case: 2512 (6432 Metric); Supplier Device Package: 2512; Size / Dimension: 0.252" L x 0.126" W (6.40mm x 3.20mm); Height - Seated (Max): 0.028" (0.70mm); Number of Terminations: 2; Failure Rate: -
footprint SMD-2512-RES
pins: 1, 2

## ERJ-1TYJ470U
designator R?, comment 47
RES SMD 47 OHM 5% 1W 2512; Part Number: ERJ-1TYJ470U; Manufacturer: Panasonic Electronic Components; Factory Stock: 0; Unit Price (USD): 0.10102; @ qty: 1500; Minimum Quantity: 1; Temperature Coefficient: ±200ppm/°C; Datasheets: //media.digikey.com/pdf/Data%20Sheets/Panasonic%20Resistors%20Thermistors%20PDFs/ERJ-xG,14,12(Z),1T_Rev_Apr_2015.pdf; Image: //media.digikey.com/Renders/Panasonic%20Renders/ERJ-2512%20Pkg.jpg; Digi-Key Part Number: PT47XCT-ND; Quantity Available: 30325; Packaging: Cut Tape (CT); Series: ERJ; Part Status: Active; Value: 47; Tolerance: ±5%; Power (Watts): 1W; Composition: Thick Film; Features: Automotive AEC-Q200; Operating Temperature: -55°C ~ 155°C; Package / Case: 2512 (6432 Metric); Supplier Device Package: 2512; Size / Dimension: 0.252" L x 0.126" W (6.40mm x 3.20mm); Height - Seated (Max): 0.028" (0.70mm); Number of Terminations: 2; Failure Rate: -
footprint SMD-2512-RES
pins: 1, 2

## ERJ-1TYJ471U
designator R?, comment 470
RES SMD 470 OHM 5% 1W 2512; Part Number: ERJ-1TYJ471U; Manufacturer: Panasonic Electronic Components; Factory Stock: 0; Unit Price (USD): 0.07603; @ qty: 1500; Minimum Quantity: 1; Temperature Coefficient: ±200ppm/°C; Datasheets: //media.digikey.com/pdf/Data%20Sheets/Panasonic%20Resistors%20Thermistors%20PDFs/ERJ-xG,14,12(Z),1T_Rev_Apr_2015.pdf; Image: //media.digikey.com/Renders/Panasonic%20Renders/ERJ-2512%20Pkg.jpg; Digi-Key Part Number: PT470XCT-ND; Quantity Available: 17721; Packaging: Cut Tape (CT); Series: ERJ; Part Status: Active; Value: 470; Tolerance: ±5%; Power (Watts): 1W; Composition: Thick Film; Features: Automotive AEC-Q200; Operating Temperature: -55°C ~ 155°C; Package / Case: 2512 (6432 Metric); Supplier Device Package: 2512; Size / Dimension: 0.252" L x 0.126" W (6.40mm x 3.20mm); Height - Seated (Max): 0.028" (0.70mm); Number of Terminations: 2; Failure Rate: -
footprint SMD-2512-RES
pins: 1, 2

## ERJ-1TYJ472U
designator R?, comment 4.7k
RES SMD 4.7K OHM 5% 1W 2512; Part Number: ERJ-1TYJ472U; Manufacturer: Panasonic Electronic Components; Factory Stock: 0; Unit Price (USD): 0.10102; @ qty: 1500; Minimum Quantity: 1; Temperature Coefficient: ±200ppm/°C; Datasheets: //media.digikey.com/pdf/Data%20Sheets/Panasonic%20Resistors%20Thermistors%20PDFs/ERJ-xG,14,12(Z),1T_Rev_Apr_2015.pdf; Image: //media.digikey.com/Renders/Panasonic%20Renders/ERJ-2512%20Pkg.jpg; Digi-Key Part Number: PT4.7KXCT-ND; Quantity Available: 35855; Packaging: Cut Tape (CT); Series: ERJ; Part Status: Active; Value: 4.7k; Tolerance: ±5%; Power (Watts): 1W; Composition: Thick Film; Features: Automotive AEC-Q200; Operating Temperature: -55°C ~ 155°C; Package / Case: 2512 (6432 Metric); Supplier Device Package: 2512; Size / Dimension: 0.252" L x 0.126" W (6.40mm x 3.20mm); Height - Seated (Max): 0.028" (0.70mm); Number of Terminations: 2; Failure Rate: -
footprint SMD-2512-RES
pins: 1, 2

## ERJ-1TYJ473U
designator R?, comment 47k
RES SMD 47K OHM 5% 1W 2512; Part Number: ERJ-1TYJ473U; Manufacturer: Panasonic Electronic Components; Factory Stock: 0; Unit Price (USD): 0.07603; @ qty: 1500; Minimum Quantity: 1; Temperature Coefficient: ±200ppm/°C; Datasheets: //media.digikey.com/pdf/Data%20Sheets/Panasonic%20Resistors%20Thermistors%20PDFs/ERJ-xG,14,12(Z),1T_Rev_Apr_2015.pdf; Image: //media.digikey.com/Renders/Panasonic%20Renders/ERJ-2512%20Pkg.jpg; Digi-Key Part Number: PT47KXCT-ND; Quantity Available: 18209; Packaging: Cut Tape (CT); Series: ERJ; Part Status: Active; Value: 47k; Tolerance: ±5%; Power (Watts): 1W; Composition: Thick Film; Features: Automotive AEC-Q200; Operating Temperature: -55°C ~ 155°C; Package / Case: 2512 (6432 Metric); Supplier Device Package: 2512; Size / Dimension: 0.252" L x 0.126" W (6.40mm x 3.20mm); Height - Seated (Max): 0.028" (0.70mm); Number of Terminations: 2; Failure Rate: -
footprint SMD-2512-RES
pins: 1, 2

## ERJ-1TYJ474U
designator R?, comment 470k
RES SMD 470K OHM 5% 1W 2512; Part Number: ERJ-1TYJ474U; Manufacturer: Panasonic Electronic Components; Factory Stock: 0; Unit Price (USD): 0.10102; @ qty: 1500; Minimum Quantity: 1; Temperature Coefficient: ±200ppm/°C; Datasheets: //media.digikey.com/pdf/Data%20Sheets/Panasonic%20Resistors%20Thermistors%20PDFs/ERJ-xG,14,12(Z),1T_Rev_Apr_2015.pdf; Image: //media.digikey.com/Renders/Panasonic%20Renders/ERJ-2512%20Pkg.jpg; Digi-Key Part Number: PT470KXCT-ND; Quantity Available: 6685; Packaging: Cut Tape (CT); Series: ERJ; Part Status: Active; Value: 470k; Tolerance: ±5%; Power (Watts): 1W; Composition: Thick Film; Features: Automotive AEC-Q200; Operating Temperature: -55°C ~ 155°C; Package / Case: 2512 (6432 Metric); Supplier Device Package: 2512; Size / Dimension: 0.252" L x 0.126" W (6.40mm x 3.20mm); Height - Seated (Max): 0.028" (0.70mm); Number of Terminations: 2; Failure Rate: -
footprint SMD-2512-RES
pins: 1, 2

## ERJ-1TYJ510U
designator R?, comment 51
RES SMD 51 OHM 5% 1W 2512; Part Number: ERJ-1TYJ510U; Manufacturer: Panasonic Electronic Components; Factory Stock: 0; Unit Price (USD): 0.10102; @ qty: 1500; Minimum Quantity: 1; Temperature Coefficient: ±200ppm/°C; Datasheets: //media.digikey.com/pdf/Data%20Sheets/Panasonic%20Resistors%20Thermistors%20PDFs/ERJ-xG,14,12(Z),1T_Rev_Apr_2015.pdf; Image: //media.digikey.com/Renders/Panasonic%20Renders/ERJ-2512%20Pkg.jpg; Digi-Key Part Number: PT51XCT-ND; Quantity Available: 43550; Packaging: Cut Tape (CT); Series: ERJ; Part Status: Active; Value: 51; Tolerance: ±5%; Power (Watts): 1W; Composition: Thick Film; Features: Automotive AEC-Q200; Operating Temperature: -55°C ~ 155°C; Package / Case: 2512 (6432 Metric); Supplier Device Package: 2512; Size / Dimension: 0.252" L x 0.126" W (6.40mm x 3.20mm); Height - Seated (Max): 0.028" (0.70mm); Number of Terminations: 2; Failure Rate: -
footprint SMD-2512-RES
pins: 1, 2

## ERJ-1TYJ511U
designator R?, comment 510
RES SMD 510 OHM 5% 1W 2512; Part Number: ERJ-1TYJ511U; Manufacturer: Panasonic Electronic Components; Factory Stock: 0; Unit Price (USD): 0.10102; @ qty: 1500; Minimum Quantity: 1; Temperature Coefficient: ±200ppm/°C; Datasheets: //media.digikey.com/pdf/Data%20Sheets/Panasonic%20Resistors%20Thermistors%20PDFs/ERJ-xG,14,12(Z),1T_Rev_Apr_2015.pdf; Image: //media.digikey.com/Renders/Panasonic%20Renders/ERJ-2512%20Pkg.jpg; Digi-Key Part Number: PT510XCT-ND; Quantity Available: 22352; Packaging: Cut Tape (CT); Series: ERJ; Part Status: Active; Value: 510; Tolerance: ±5%; Power (Watts): 1W; Composition: Thick Film; Features: Automotive AEC-Q200; Operating Temperature: -55°C ~ 155°C; Package / Case: 2512 (6432 Metric); Supplier Device Package: 2512; Size / Dimension: 0.252" L x 0.126" W (6.40mm x 3.20mm); Height - Seated (Max): 0.028" (0.70mm); Number of Terminations: 2; Failure Rate: -
footprint SMD-2512-RES
pins: 1, 2

## ERJ-1TYJ512U
designator R?, comment 5.1k
RES SMD 5.1K OHM 5% 1W 2512; Part Number: ERJ-1TYJ512U; Manufacturer: Panasonic Electronic Components; Factory Stock: 0; Unit Price (USD): 0.07603; @ qty: 1500; Minimum Quantity: 1; Temperature Coefficient: ±200ppm/°C; Datasheets: //media.digikey.com/pdf/Data%20Sheets/Panasonic%20Resistors%20Thermistors%20PDFs/ERJ-xG,14,12(Z),1T_Rev_Apr_2015.pdf; Image: //media.digikey.com/Renders/Panasonic%20Renders/ERJ-2512%20Pkg.jpg; Digi-Key Part Number: PT5.1KXCT-ND; Quantity Available: 45036; Packaging: Cut Tape (CT); Series: ERJ; Part Status: Active; Value: 5.1k; Tolerance: ±5%; Power (Watts): 1W; Composition: Thick Film; Features: Automotive AEC-Q200; Operating Temperature: -55°C ~ 155°C; Package / Case: 2512 (6432 Metric); Supplier Device Package: 2512; Size / Dimension: 0.252" L x 0.126" W (6.40mm x 3.20mm); Height - Seated (Max): 0.028" (0.70mm); Number of Terminations: 2; Failure Rate: -
footprint SMD-2512-RES
pins: 1, 2

## ERJ-1TYJ513U
designator R?, comment 51k
RES SMD 51K OHM 5% 1W 2512; Part Number: ERJ-1TYJ513U; Manufacturer: Panasonic Electronic Components; Factory Stock: 0; Unit Price (USD): 0.10102; @ qty: 1500; Minimum Quantity: 1; Temperature Coefficient: ±200ppm/°C; Datasheets: //media.digikey.com/pdf/Data%20Sheets/Panasonic%20Resistors%20Thermistors%20PDFs/ERJ-xG,14,12(Z),1T_Rev_Apr_2015.pdf; Image: //media.digikey.com/Renders/Panasonic%20Renders/ERJ-2512%20Pkg.jpg; Digi-Key Part Number: PT51KXCT-ND; Quantity Available: 18774; Packaging: Cut Tape (CT); Series: ERJ; Part Status: Active; Value: 51k; Tolerance: ±5%; Power (Watts): 1W; Composition: Thick Film; Features: Automotive AEC-Q200; Operating Temperature: -55°C ~ 155°C; Package / Case: 2512 (6432 Metric); Supplier Device Package: 2512; Size / Dimension: 0.252" L x 0.126" W (6.40mm x 3.20mm); Height - Seated (Max): 0.028" (0.70mm); Number of Terminations: 2; Failure Rate: -
footprint SMD-2512-RES
pins: 1, 2

## ERJ-1TYJ514U
designator R?, comment 510k
RES SMD 510K OHM 5% 1W 2512; Part Number: ERJ-1TYJ514U; Manufacturer: Panasonic Electronic Components; Factory Stock: 0; Unit Price (USD): 0.10102; @ qty: 1500; Minimum Quantity: 1; Temperature Coefficient: ±200ppm/°C; Datasheets: //media.digikey.com/pdf/Data%20Sheets/Panasonic%20Resistors%20Thermistors%20PDFs/ERJ-xG,14,12(Z),1T_Rev_Apr_2015.pdf; Image: //media.digikey.com/Renders/Panasonic%20Renders/ERJ-2512%20Pkg.jpg; Digi-Key Part Number: PT510KXCT-ND; Quantity Available: 58901; Packaging: Cut Tape (CT); Series: ERJ; Part Status: Active; Value: 510k; Tolerance: ±5%; Power (Watts): 1W; Composition: Thick Film; Features: Automotive AEC-Q200; Operating Temperature: -55°C ~ 155°C; Package / Case: 2512 (6432 Metric); Supplier Device Package: 2512; Size / Dimension: 0.252" L x 0.126" W (6.40mm x 3.20mm); Height - Seated (Max): 0.028" (0.70mm); Number of Terminations: 2; Failure Rate: -
footprint SMD-2512-RES
pins: 1, 2

## ERJ-1TYJ560U
designator R?, comment 56
RES SMD 56 OHM 5% 1W 2512; Part Number: ERJ-1TYJ560U; Manufacturer: Panasonic Electronic Components; Factory Stock: 0; Unit Price (USD): 0.07603; @ qty: 1500; Minimum Quantity: 1; Temperature Coefficient: ±200ppm/°C; Datasheets: //media.digikey.com/pdf/Data%20Sheets/Panasonic%20Resistors%20Thermistors%20PDFs/ERJ-xG,14,12(Z),1T_Rev_Apr_2015.pdf; Image: //media.digikey.com/Renders/Panasonic%20Renders/ERJ-2512%20Pkg.jpg; Digi-Key Part Number: PT56XCT-ND; Quantity Available: 10341; Packaging: Cut Tape (CT); Series: ERJ; Part Status: Active; Value: 56; Tolerance: ±5%; Power (Watts): 1W; Composition: Thick Film; Features: Automotive AEC-Q200; Operating Temperature: -55°C ~ 155°C; Package / Case: 2512 (6432 Metric); Supplier Device Package: 2512; Size / Dimension: 0.252" L x 0.126" W (6.40mm x 3.20mm); Height - Seated (Max): 0.028" (0.70mm); Number of Terminations: 2; Failure Rate: -
footprint SMD-2512-RES
pins: 1, 2